# EAGLE library part LM2917 (library Fitch_Eagle_Library)
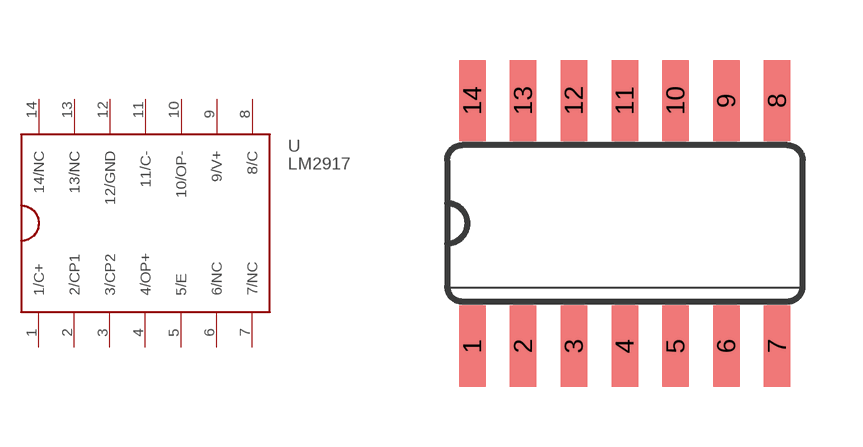
[diagram p1: symbol with the pads of SO14; footprint SO14]

Designator prefix -

## LM2917  [SO14]
1  1/C+
2  2/CP1
3  3/CP2
4  4/OP+
5  5/E
6  6/NC
7  7/NC
8  8/C
9  9/V+
10  10/OP-
11  11/C-
12  12/GND
13  13/NC
14  14/NC

## Footprint SO14 (pad centres in mm)
Small Outline package 150 mil
smd 0.66 x 2.032: 1 -3.81,-3.073; 2 -2.54,-3.073; 3 -1.27,-3.073; 4 0,-3.073; 5 1.27,-3.073; 6 2.54,-3.073; 7 3.81,-3.073; 8 3.81,3.073; 9 2.54,3.073; 10 1.27,3.073; 11 0,3.073; 12 -1.27,3.073; 13 -2.54,3.073; 14 -3.81,3.073